# Altium footprint library VSS-Inductance.PcbLib: 1 footprints
Each footprint in its own frame and in the unit in brackets; x right, y up, seen from the top. Pads: shape width x height; smd on the part's side, far side on the other; paste and mask are expansions set on the pad; w line width, h text height; cw(c..) or ccw(c..) is an arc to the next point about the centre after c.
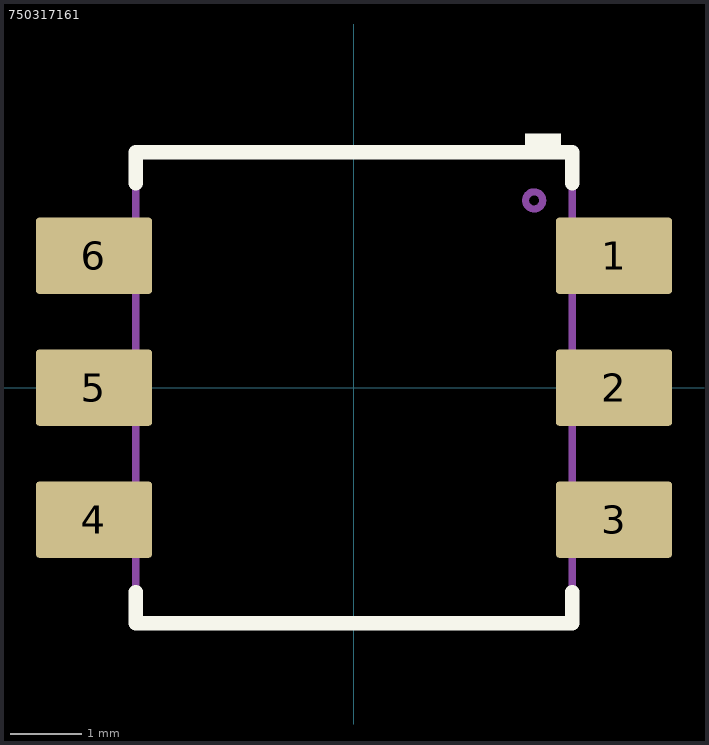
[diagram p0: the footprint, top view; thin cyan lines are the x and y axes]

## 750317161 [mm]
pads (6):
  rrect9% 1.63x1.07 smd: 1(3.645,1.85) 2(3.645,0) 3(3.645,-1.85) 4(-3.645,-1.85) 5(-3.645,0) 6(-3.645,1.85)
Top Overlay:
  region: 2.4,3.566 2.4,3.301 2.9,3.301 2.9,3.566
  lines w0.2: -3.06,-2.865 -3.06,-3.3 3.06,-3.3 3.06,-2.865 ; -3.06,2.865 -3.06,3.3 3.06,3.3 3.06,2.865
Mechanical 5:
  circle w0.1: c2.525,2.625 r0.12
  lines w0.1: -3.097,-2.15 -3.06,-2.15 ; -3.097,-1.54 -3.06,-1.54 ; -3.097,-0.31 -3.06,-0.31 -4.13,-0.31 -4.13,0.3 -3.06,0.3 ; -3.06,-0.3 -3.097,-0.3 -3.097,0.3 ; 3.06,-2.15 3.097,-2.15 3.097,-1.54 3.06,-1.54 ; 3.06,-0.3 3.097,-0.3 3.097,0.3 ; 3.097,-2.16 3.06,-2.16 4.13,-2.16 4.13,-1.55 3.06,-1.55 3.097,-1.55 ; 3.097,-0.31 3.06,-0.31 4.13,-0.31 4.13,0.3 3.06,0.3 ; -3.097,0.3 -3.06,0.3 ; -3.097,0.3 -3.06,0.3 ; -3.097,1.54 -3.06,1.54 ; -3.097,1.54 -3.06,1.54 ; -3.097,1.54 -3.097,2.15 ; -3.097,2.15 -3.06,2.15 ; -3.097,2.15 -3.06,2.15 ; -3.06,1.54 -4.13,1.54 -4.13,2.15 -3.06,2.15 ; 3.06,0.3 3.097,0.3 ; 3.06,0.3 3.097,0.3 ; -4.13,-2.16 -3.06,-2.16 -3.097,-2.16 -3.097,-1.55 -3.06,-1.55 -4.13,-1.55 -4.13,-2.16 ; -3.06,-3.3 3.06,-3.3 3.06,3.3 -3.06,3.3 -3.06,-3.3 ; 3.06,1.54 3.097,1.54 3.097,2.15 3.06,2.15 4.13,2.15 4.13,1.54 3.06,1.54
  text ".Designator" at -0.83,5.196 h1.02
3D body "EP5_4426.stp": height 5.15, standoff 0, extent -3.85,-3.235 3.85,3.235